# Altium schematic symbol library RCU.SchLib: 6 symbols
Pins are listed as number, name and electrical type; pins without a type are passive.

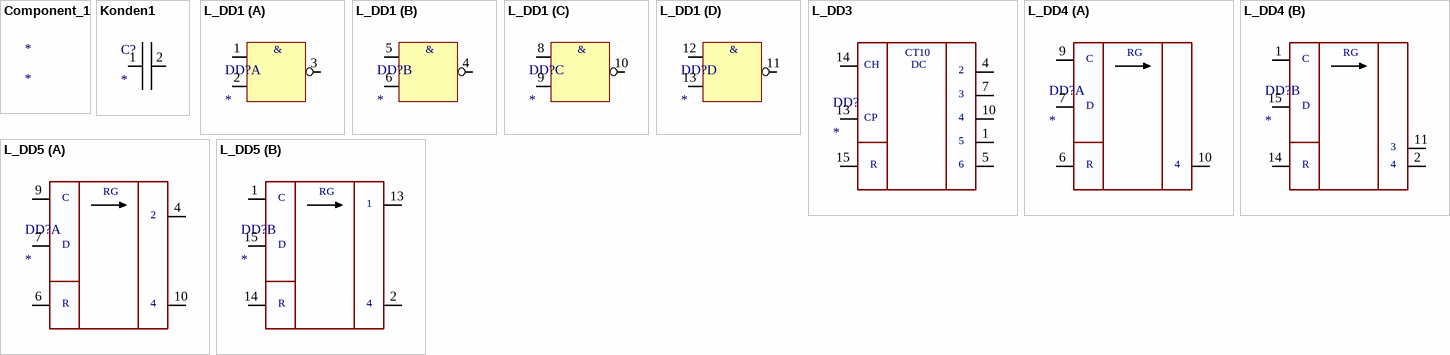
[diagram p0: symbols Component_1 to L_DD5]

## Component_1
designator *

## Konden1
designator C?
footprint C_001
footprint С_002
pins: 1, 2

## L_DD1
designator DD?
footprint DIP14
pins on every part: 7 hidden to GND "Grownd", 14 hidden to Power "Power"
part A pins: 1, 2, 3
part B pins: 4, 5, 6
part C pins: 8, 9, 10
part D pins: 11, 12, 13
1 alternate drawing of the same symbol
part A text: &
part B text: &
part C text: &
part D text: &

## L_DD3
designator DD?
footprint DIP16
pins: 1, 4, 5, 7, 8 hidden to GND "GROUND", 10, 13, 14, 15, 16 (power) hidden to Power "Power"
text: CT10; CH; DC; 2; 3; CP; R; 6

## L_DD4
designator DD?
footprint DIP16
part A pins: 6, 7, 8 hidden to GND "Grownd", 9, 10, 16 hidden to Power "Power"
part B pins: 1, 2, 11, 14, 15
part A text: C; RG; D; R; 4
part B text: C; RG; D; 3; R; 4

## L_DD5
designator DD?
footprint DIP16
part A pins: 4, 6, 7, 8 hidden to GND "Grownd", 9, 10, 16 hidden to Power "Power"
part B pins: 1, 2, 13, 14, 15
part A text: C; RG; D; R
part B text: C; RG; D; R